# EAGLE library part A151-715.05M1 (library saw-filters-narrowband)
СКТН.433561.151-17 Параметр Ед. изм. Мин. значение Тип. значение Макс. значение Центральная частота МГц 714.8 715.05 715.3 Минимальное вносимое затухание дБ - - 5 Полоса среза по уровню -3 дБ МГц 7.8 8.2 8.6 Полоса среза по уровню -33 дБ МГц - - 40 Неравномерность АЧХ дБ - 0.7 1 Групповое время задержки нс - - - Гарантированное затухание дБ - 60 - Температурный диапазон °C -55 22 +85 Материал подложки - - Танталат лития 36 -
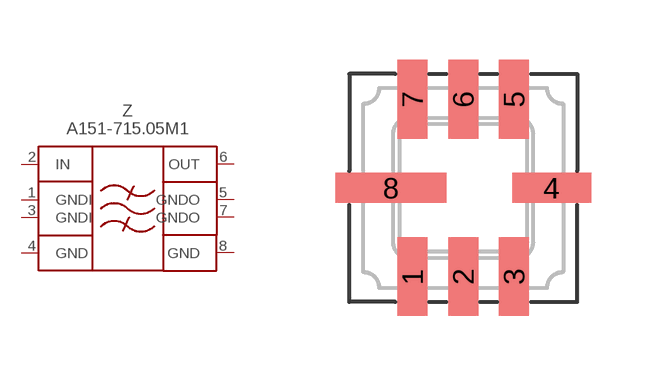
[diagram p155: symbol with the pads of QCC8; footprint QCC8]

Designator prefix Z

## A151-715.05M1  [QCC8]
1  GNDI  pas
2  IN  pas
3  GNDI  pas
4  GND  pwr
5  GNDO  pas
6  OUT  pas
7  GNDO  pas
8  GND  pwr

## Footprint QCC8 (pad centres in mm)
smd 0.75 x 1.97: 1 -1.27,-2.215; 2 0,-2.215; 3 1.27,-2.215; 5 1.27,2.215; 6 0,2.215; 7 -1.27,2.215
smd 1.97 x 0.75: 4 2.215,0
smd 2.78 x 0.75: 8 -1.81,0